# Altium footprint library RS485_422.PcbLib: 1 footprints
Each footprint in its own frame and in the unit in brackets; x right, y up, seen from the top. Pads: shape width x height; smd on the part's side, far side on the other; paste and mask are expansions set on the pad; w line width, h text height; cw(c..) or ccw(c..) is an arc to the next point about the centre after c.
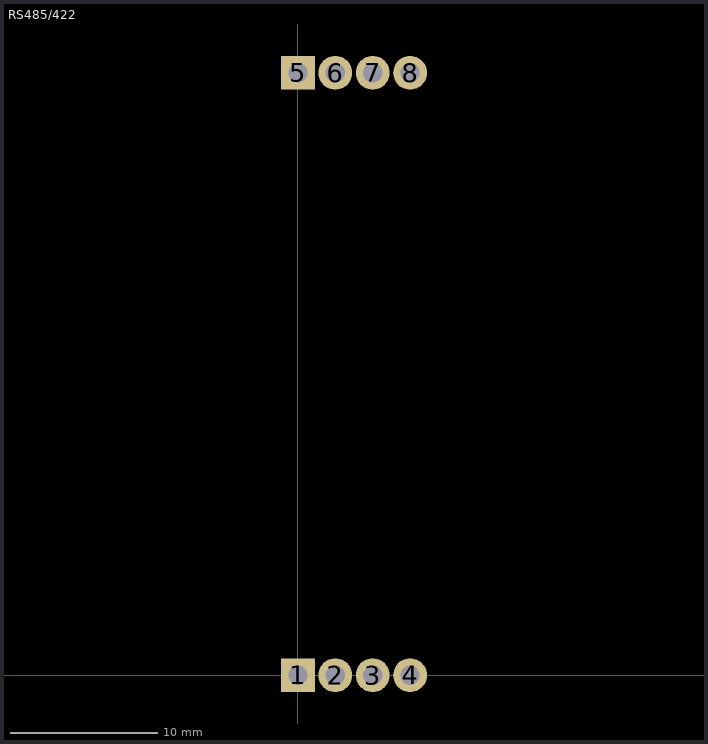
[diagram p0: the footprint, top view; thin cyan lines are the x and y axes]

## RS485/422 [mm]
pads (8):
  rect 2.3x2.3 hole 1.3: 1(0,0) 5(0,40.894)
  round 2.3 hole 1.3: 2(2.54,0) 3(5.08,0) 4(7.62,0) 6(2.54,40.894) 7(5.08,40.894) 8(7.62,40.894)
3D body "User Library-TTL_RS485.STEP": height 14.79, standoff -5.21, extent -3.175,-1.524 10.825,42.476